# Altium footprint library SnapEDApcb.PcbLib: 1 footprints
Each footprint in its own frame and in the unit in brackets; x right, y up, seen from the top. Pads: shape width x height; smd on the part's side, far side on the other; paste and mask are expansions set on the pad; w line width, h text height; cw(c..) or ccw(c..) is an arc to the next point about the centre after c.
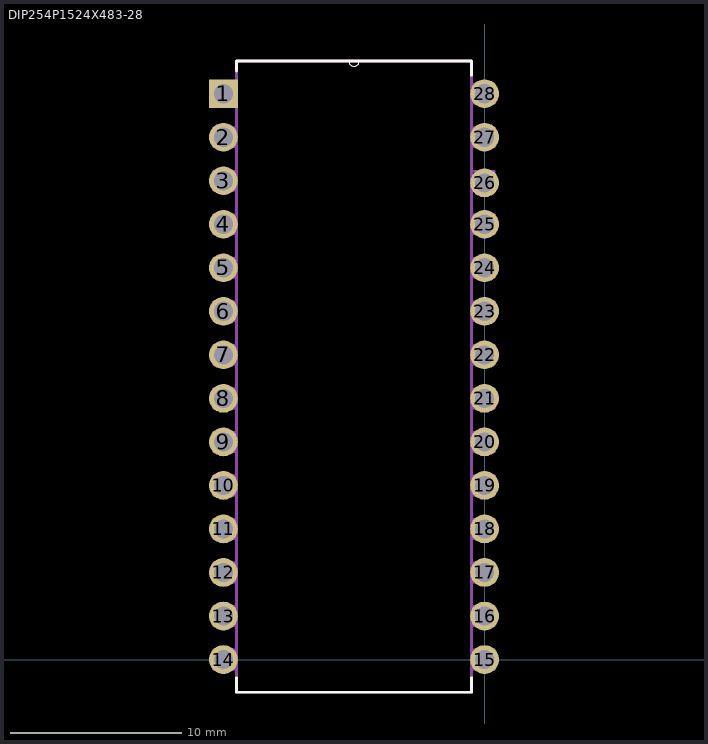
[diagram p0: the footprint, top view; thin cyan lines are the x and y axes]

## DIP254P1524X483-28 [mil]
pads (28):
  rect 66x66 hole 44: 1(-600,1300)
  round 66 hole 44: 2(-600,1200) 3(-600,1100) 4(-600,1000) 5(-600,900) 6(-600,800) 7(-600,700) 8(-600,600) 9(-600,500) 10(-600,400) 11(-600,300) 12(-600,200) 13(-600,100) 14(-600,0) 15(0,0) 16(0,100) 17(0,200) 18(0,300) 19(0,400) 20(0,500) 21(0,600) 22(0,700) 23(0,800) 24(0,900) 25(0,1000) 26(0,1095) 27(0,1200) 28(0,1300)
Top Overlay:
  lines w0: -312,1375 ccw(c-300,1375) -288,1375
  lines w6: -570,-42 -570,-75 -30,-75 -30,-42 ; -570,1352 -570,1375 -312,1375 -288,1375 -30,1375 -30,1342
Mechanical 13:
  lines w0: -312,1375 ccw(c-300,1375) -288,1375
  lines w6: -622,-22 -570,-22 -570,22 -622,22 -622,-22 ; -622,78 -570,78 -570,122 -622,122 -622,78 ; -622,178 -570,178 -570,222 -622,222 -622,178 ; -622,278 -570,278 -570,322 -622,322 -622,278 ; -622,378 -570,378 -570,422 -622,422 -622,378 ; -622,478 -570,478 -570,522 -622,522 -622,478 ; -622,578 -570,578 -570,622 -622,622 -622,578 ; -622,678 -570,678 -570,722 -622,722 -622,678 ; -622,778 -570,778 -570,822 -622,822 -622,778 ; -622,878 -570,878 -570,922 -622,922 -622,878 ; -622,978 -570,978 -570,1022 -622,1022 -622,978 ; -622,1078 -570,1078 -570,1122 -622,1122 -622,1078 ; -622,1178 -570,1178 -570,1222 -622,1222 -622,1178 ; -622,1278 -570,1278 -570,1322 -622,1322 -622,1278 ; -570,-75 -570,1375 -312,1375 -288,1375 -30,1375 -30,-75 -570,-75 ; -30,-22 22,-22 22,22 -30,22 -30,-22 ; -30,78 22,78 22,122 -30,122 -30,78 ; -30,178 22,178 22,222 -30,222 -30,178 ; -30,278 22,278 22,322 -30,322 -30,278 ; -30,378 22,378 22,422 -30,422 -30,378 ; -30,478 22,478 22,522 -30,522 -30,478 ; -30,578 22,578 22,622 -30,622 -30,578 ; -30,678 22,678 22,722 -30,722 -30,678 ; -30,778 22,778 22,822 -30,822 -30,778 ; -30,878 22,878 22,922 -30,922 -30,878 ; -30,978 22,978 22,1022 -30,1022 -30,978 ; -30,1078 22,1078 22,1122 -30,1122 -30,1078 ; -30,1178 22,1178 22,1222 -30,1222 -30,1178 ; -30,1278 22,1278 22,1322 -30,1322 -30,1278
3D body "ADC0808CCN--3DModel-STEP-56544.STEP": height 200, standoff -125.2, extent -599.92,-59.96 9.92,1369.96